# Altium integrated library TI Power Management DC-DC Controller (External Switch).IntLib: 349 symbols (part 6 of 28)
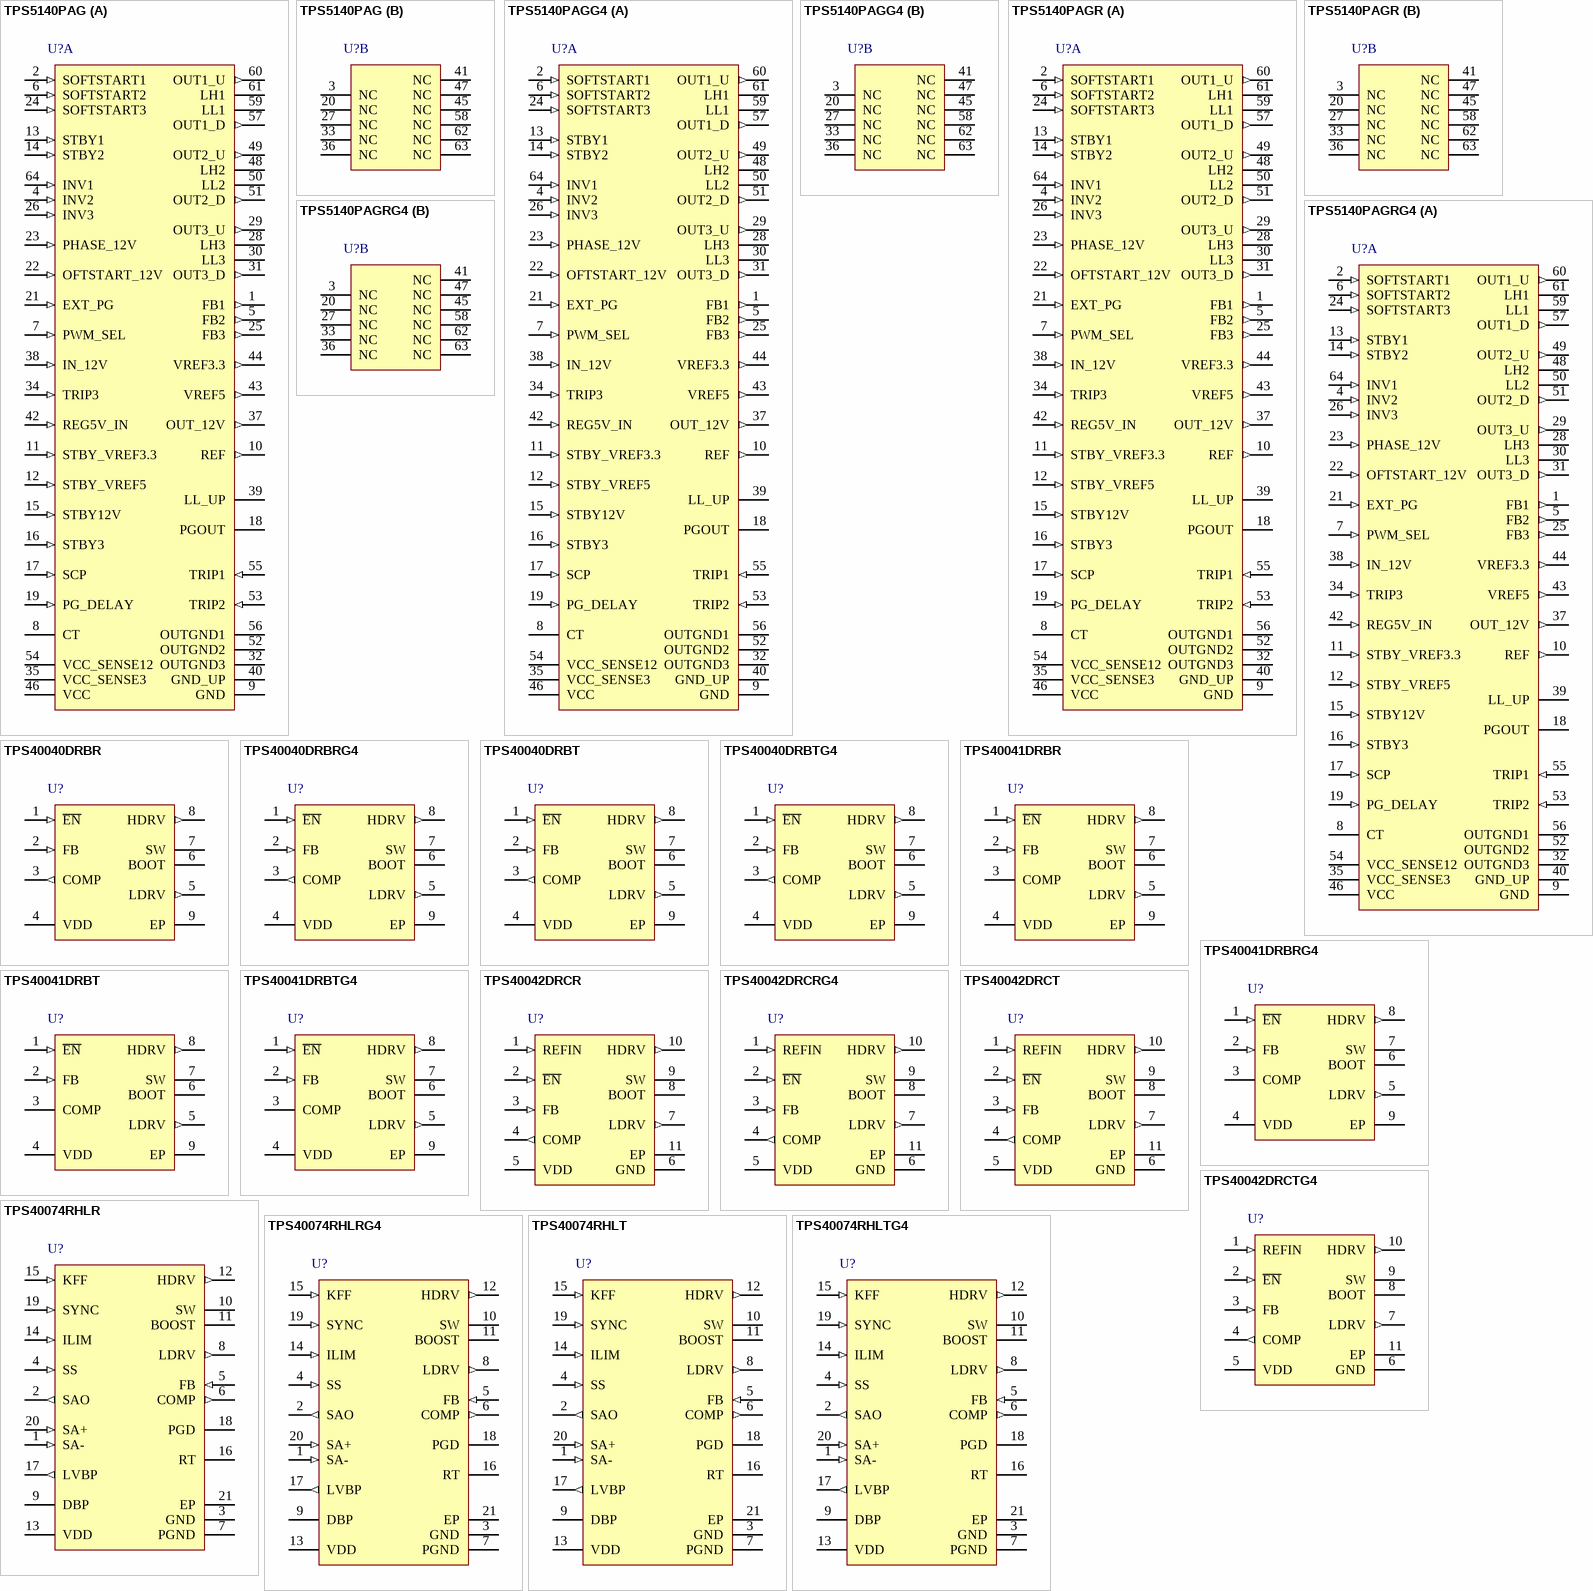
[diagram p19: symbols TPS5140PAG to TPS40074RHLTG4]

## TPS5140PAGG4
designator U?
Quad Output (3 Buck, 1 Boost) High Efficiency DC / DC Controller for Notebook PC Power, 75 % Duty Cycle, 4.5 to 28 V, -20 to 85 degC, 64-pin TQFP (PAG), Green (RoHS & no Sb/Br); Manufacturer: Texas Instruments; PartNumber: TPS5140PAGG4; Duty Cycle(Max)(%): 75; Iout(Max)(A): 20; Regulated Outputs(#): 4; SubFamily: Multiple-Output Switching Controller; Switching Frequency(Max)(kHz): 350; Synchronous Rectification: TRUE; Vin(Max)(V): 28; Vin(Min)(V): 4.5; Vout(Max)(V): 26; Vout(Min)(V): 1.2; DatasheetVersion: SLVS305A; PackageVersion: Dec-1996; PackageReference: PAG64; PackageDescription: 64-Pin Thin Quad Flat Pack 0.5 mm Pitch; Supplier 1: Digi-Key; Supplier Part Number 1: TPS5140PAGG4-ND; Supplier 2: Mouser; Supplier Part Number 2: 595-TPS5140PAGG4; Eco-Plan: Green (RoHS & no Sb/Br); Iout2(A): 20; Topology: Buck; Vout2(Max)(V): 26; Vout2(Min)(V): 1.2; Mounting Technology: Surface Mount; Code_JEDEC: MS-026; ComponentLink1Description: Datasheet; ComponentLink1URL: http://www.ti.com/general/docs/lit/getliterature.tsp?genericPartNumber=TPS5140&fileType=pdf; ComponentLink2Description: Package Specification; ComponentLink2URL: http://www.ti.com/litv/pdf/mtqf006a
footprint PAG64_N (Thin QFP, 64-Leads, Body 10x10mm, Pitch 0.5mm, IPC Medium Density)
footprint PAG64_L (Thin QFP, 64-Leads, Body 10x10mm, Pitch 0.5mm, IPC High Density)
footprint PAG64_M (Thin QFP, 64-Leads, Body 10x10mm, Pitch 0.5mm, IPC Low Density)
part A pins: 1 FB1 (out) "Feedback output of CH1 error amplifier.", 2 SOFTSTART1 (in) "External capacitor from SOFTSTART1 to GND for CH1 soft starts control.", 4 INV2 (in) "Inverting input of CH1 error amplifier, skip comparator and OVP2/UVP2, PG comparator.", 5 FB2 (out) "Feedback output of CH2 error amplifier.", 6 SOFTSTART2 (in) "External capacitor from SOFTSTART2 to GND for CH2 soft starts control.", 7 PWM_SEL (in) "PWM or auto PWM/SKIP modes select. L: PWM fixed  H: auto PWM/SKIP", 8 CT "External capacitor from Ct to GND used for adjusting the triangle oscillator.", 9 GND (power) "Control GND.", 10 REF (out) "1.185 V reference voltage output.", 11 STBY_VREF3.3 (in) "Stand by control for 3.3-V linear regulator.", 12 STBY_VREF5 (in) "Stand by control for 5-V linear regulator.", 13 STBY1 (in) "Stand by control for CH1.", 14 STBY2 (in) "Stand by control for CH2.", 15 STBY12V (in) "Stand by control for 12-V boost converter.", 16 STBY3 (in) "Stand by control for CH3.", 17 SCP (in) "Short circuit protection terminal. An external capacitor is connected between SCP and GND to set the SCP enable time up.", 18 PGOUT (oc) "Open drain output for power good signal.", 19 PG_DELAY (in) "Programmable delay for power good. Connect to the external capacitor for timer delay.", 21 EXT_PG (in) "External power good signal input.", 22 OFTSTART_12V (in) "External capacitor from SOFTSTART_12V to GND for CH4 (12-V boost converter) soft starts control.", 23 PHASE_12V (in) "Phase compensation for the12-V boost converter. Connect to an external capacitor. But normally it is not connected.", 24 SOFTSTART3 (in) "External capacitor from SOFTSTART3 to GND for CH3 soft starts control.", 25 FB3 (out) "Feedback output of CH3 error amplifier.", 26 INV3 (in) "Inverting input of CH1 error amplifier, skip comparator and OVP3/UVP3, PG comparator.", 28 LH3 (power) "Bootstrap capacitor connection for CH3 high side gate drive.", 29 OUT3_U (out) "Gate drive output for CH3 high side switching FETs.", 30 LL3 (power) "Bootstrap low for CH3 high side gate driving return and output current protection. Connect to the junction of the high side and low side FETs for floating drive configuration.", 31 OUT3_D (out) "Gate drive output for CH3 low side gate drive.", 32 OUTGND3 (power) "Ground for CH3 FETs drivers. It is connected to the one of current limiting comparator input.", 34 TRIP3 (in) "External resistor connection for CH3 output current protection control.", 35 VCC_SENSE3 (power) "Supply voltage input and input voltage terminal for CH3 output current sense.", 37 OUT_12V (out) "Output of PMOS switch for 12-V boost output. Connect to the output capacitor for 12-V boost output.", 38 IN_12V (in) "Input of PMOS switch for 12-V boost output. Connecting to cathode of the external Schottky diode.", 39 LL_UP (oc) "Open drain output of internal NMOS switch for 12-V boost converter. Connect between external inductor and the anode of the schottky diode.", 40 GND_UP (power) "Ground for 12-V boost converter.", 42 REG5V_IN (in) "External 5 V input.", 43 VREF5 (out) "5-V linear regulator output.", 44 VREF3.3 (out) "3.3-V linear regulator output.", 46 VCC (power) "Supply voltage input.", 48 LH2 (power) "Bootstrap capacitor connection for CH2 high side gate drive.", 49 OUT2_U (out) "Gate drive output for CH2 high side switching FETs.", 50 LL2 (power) "Bootstrap low for CH2 high side gate driving return and output current protection. Connect to the junction of the high side and low side FETs for floating drive configuration.", 51 OUT2_D (out) "Gate drive output for CH2 low side gate drive.", 52 OUTGND2 (power) "Ground for CH2 FETs drivers. It is connected to one of current limiting comparator input.", 53 TRIP2 (in) "External resistor connection for CH2 output current protection control.", 54 VCC_SENSE12 (power) "Supply voltage input and input voltage terminal for CH1/2 output current sense.", 55 TRIP1 (in) "External resistor connection for CH1 output current protection control.", 56 OUTGND1 (power) "Ground for CH1 FETs drivers. It is connected to one of the current limiting comparator input.", 57 OUT1_D (out) "Gate drive output for CH1 low side gate drive.", 59 LL1 (power) "Bootstrap low for CH1 high side gate driving return and output current protection. Connect to the junction of the high side and low side FETs for floating drive configuration.", 60 OUT1_U (out) "Gate drive output for CH1 high side switching FETs.", 61 LH1 (power) "Bootstrap capacitor connection for CH1 high side gate drive.", 64 INV1 (in) "Inverting input of CH1 error amplifier, skip comparator and OVP1/UVP1, PG comparator."
part B pins: 3 NC "No connect.", 20 NC "No connect.", 27 NC "No connect.", 33 NC "No connect.", 36 NC "No connect.", 41 NC "No connect.", 45 NC "No connect.", 47 NC "No connect.", 58 NC "No connect.", 62 NC "No connect.", 63 NC "No connect."

## TPS5140PAGR
designator U?
Quad Output (3 Buck, 1 Boost) High Efficiency DC / DC Controller for Notebook PC Power, 75 % Duty Cycle, 4.5 to 28 V, -20 to 85 degC, 64-pin TQFP (PAG), Green (RoHS & no Sb/Br); Manufacturer: Texas Instruments; PartNumber: TPS5140PAGR; Duty Cycle(Max)(%): 75; Iout(Max)(A): 20; Regulated Outputs(#): 4; SubFamily: Multiple-Output Switching Controller; Switching Frequency(Max)(kHz): 350; Synchronous Rectification: TRUE; Vin(Max)(V): 28; Vin(Min)(V): 4.5; Vout(Max)(V): 26; Vout(Min)(V): 1.2; DatasheetVersion: SLVS305A; PackageVersion: Dec-1996; PackageReference: PAG64; PackageDescription: 64-Pin Thin Quad Flat Pack 0.5 mm Pitch; Supplier 1: Digi-Key; Supplier Part Number 1: TPS5140PAGR-ND; Supplier 2: Mouser; Supplier Part Number 2: 595-TPS5140PAGR; Eco-Plan: Green (RoHS & no Sb/Br); Iout2(A): 20; Topology: Buck; Vout2(Max)(V): 26; Vout2(Min)(V): 1.2; Mounting Technology: Surface Mount; Code_JEDEC: MS-026; ComponentLink1Description: Datasheet; ComponentLink1URL: http://www.ti.com/general/docs/lit/getliterature.tsp?genericPartNumber=TPS5140&fileType=pdf; ComponentLink2Description: Package Specification; ComponentLink2URL: http://www.ti.com/litv/pdf/mtqf006a
footprint PAG64_N (Thin QFP, 64-Leads, Body 10x10mm, Pitch 0.5mm, IPC Medium Density)
footprint PAG64_L (Thin QFP, 64-Leads, Body 10x10mm, Pitch 0.5mm, IPC High Density)
footprint PAG64_M (Thin QFP, 64-Leads, Body 10x10mm, Pitch 0.5mm, IPC Low Density)
part A pins: 1 FB1 (out) "Feedback output of CH1 error amplifier.", 2 SOFTSTART1 (in) "External capacitor from SOFTSTART1 to GND for CH1 soft starts control.", 4 INV2 (in) "Inverting input of CH1 error amplifier, skip comparator and OVP2/UVP2, PG comparator.", 5 FB2 (out) "Feedback output of CH2 error amplifier.", 6 SOFTSTART2 (in) "External capacitor from SOFTSTART2 to GND for CH2 soft starts control.", 7 PWM_SEL (in) "PWM or auto PWM/SKIP modes select. L: PWM fixed  H: auto PWM/SKIP", 8 CT "External capacitor from Ct to GND used for adjusting the triangle oscillator.", 9 GND (power) "Control GND.", 10 REF (out) "1.185 V reference voltage output.", 11 STBY_VREF3.3 (in) "Stand by control for 3.3-V linear regulator.", 12 STBY_VREF5 (in) "Stand by control for 5-V linear regulator.", 13 STBY1 (in) "Stand by control for CH1.", 14 STBY2 (in) "Stand by control for CH2.", 15 STBY12V (in) "Stand by control for 12-V boost converter.", 16 STBY3 (in) "Stand by control for CH3.", 17 SCP (in) "Short circuit protection terminal. An external capacitor is connected between SCP and GND to set the SCP enable time up.", 18 PGOUT (oc) "Open drain output for power good signal.", 19 PG_DELAY (in) "Programmable delay for power good. Connect to the external capacitor for timer delay.", 21 EXT_PG (in) "External power good signal input.", 22 OFTSTART_12V (in) "External capacitor from SOFTSTART_12V to GND for CH4 (12-V boost converter) soft starts control.", 23 PHASE_12V (in) "Phase compensation for the12-V boost converter. Connect to an external capacitor. But normally it is not connected.", 24 SOFTSTART3 (in) "External capacitor from SOFTSTART3 to GND for CH3 soft starts control.", 25 FB3 (out) "Feedback output of CH3 error amplifier.", 26 INV3 (in) "Inverting input of CH1 error amplifier, skip comparator and OVP3/UVP3, PG comparator.", 28 LH3 (power) "Bootstrap capacitor connection for CH3 high side gate drive.", 29 OUT3_U (out) "Gate drive output for CH3 high side switching FETs.", 30 LL3 (power) "Bootstrap low for CH3 high side gate driving return and output current protection. Connect to the junction of the high side and low side FETs for floating drive configuration.", 31 OUT3_D (out) "Gate drive output for CH3 low side gate drive.", 32 OUTGND3 (power) "Ground for CH3 FETs drivers. It is connected to the one of current limiting comparator input.", 34 TRIP3 (in) "External resistor connection for CH3 output current protection control.", 35 VCC_SENSE3 (power) "Supply voltage input and input voltage terminal for CH3 output current sense.", 37 OUT_12V (out) "Output of PMOS switch for 12-V boost output. Connect to the output capacitor for 12-V boost output.", 38 IN_12V (in) "Input of PMOS switch for 12-V boost output. Connecting to cathode of the external Schottky diode.", 39 LL_UP (oc) "Open drain output of internal NMOS switch for 12-V boost converter. Connect between external inductor and the anode of the schottky diode.", 40 GND_UP (power) "Ground for 12-V boost converter.", 42 REG5V_IN (in) "External 5 V input.", 43 VREF5 (out) "5-V linear regulator output.", 44 VREF3.3 (out) "3.3-V linear regulator output.", 46 VCC (power) "Supply voltage input.", 48 LH2 (power) "Bootstrap capacitor connection for CH2 high side gate drive.", 49 OUT2_U (out) "Gate drive output for CH2 high side switching FETs.", 50 LL2 (power) "Bootstrap low for CH2 high side gate driving return and output current protection. Connect to the junction of the high side and low side FETs for floating drive configuration.", 51 OUT2_D (out) "Gate drive output for CH2 low side gate drive.", 52 OUTGND2 (power) "Ground for CH2 FETs drivers. It is connected to one of current limiting comparator input.", 53 TRIP2 (in) "External resistor connection for CH2 output current protection control.", 54 VCC_SENSE12 (power) "Supply voltage input and input voltage terminal for CH1/2 output current sense.", 55 TRIP1 (in) "External resistor connection for CH1 output current protection control.", 56 OUTGND1 (power) "Ground for CH1 FETs drivers. It is connected to one of the current limiting comparator input.", 57 OUT1_D (out) "Gate drive output for CH1 low side gate drive.", 59 LL1 (power) "Bootstrap low for CH1 high side gate driving return and output current protection. Connect to the junction of the high side and low side FETs for floating drive configuration.", 60 OUT1_U (out) "Gate drive output for CH1 high side switching FETs.", 61 LH1 (power) "Bootstrap capacitor connection for CH1 high side gate drive.", 64 INV1 (in) "Inverting input of CH1 error amplifier, skip comparator and OVP1/UVP1, PG comparator."
part B pins: 3 NC "No connect.", 20 NC "No connect.", 27 NC "No connect.", 33 NC "No connect.", 36 NC "No connect.", 41 NC "No connect.", 45 NC "No connect.", 47 NC "No connect.", 58 NC "No connect.", 62 NC "No connect.", 63 NC "No connect."

## TPS5140PAGRG4
designator U?
Quad Output (3 Buck, 1 Boost) High Efficiency DC / DC Controller for Notebook PC Power, 75 % Duty Cycle, 4.5 to 28 V, -20 to 85 degC, 64-pin TQFP (PAG), Green (RoHS & no Sb/Br); Manufacturer: Texas Instruments; PartNumber: TPS5140PAGRG4; Duty Cycle(Max)(%): 75; Iout(Max)(A): 20; Regulated Outputs(#): 4; SubFamily: Multiple-Output Switching Controller; Switching Frequency(Max)(kHz): 350; Synchronous Rectification: TRUE; Vin(Max)(V): 28; Vin(Min)(V): 4.5; Vout(Max)(V): 26; Vout(Min)(V): 1.2; DatasheetVersion: SLVS305A; PackageVersion: Dec-1996; PackageReference: PAG64; PackageDescription: 64-Pin Thin Quad Flat Pack 0.5 mm Pitch; Supplier 1: Digi-Key; Supplier Part Number 1: TPS5140PAGRG4-ND; Supplier 2: Mouser; Supplier Part Number 2: 595-TPS5140PAGRG4; Eco-Plan: Green (RoHS & no Sb/Br); Iout2(A): 20; Topology: Buck; Vout2(Max)(V): 26; Vout2(Min)(V): 1.2; Mounting Technology: Surface Mount; Code_JEDEC: MS-026; ComponentLink1Description: Datasheet; ComponentLink1URL: http://www.ti.com/general/docs/lit/getliterature.tsp?genericPartNumber=TPS5140&fileType=pdf; ComponentLink2Description: Package Specification; ComponentLink2URL: http://www.ti.com/litv/pdf/mtqf006a
footprint PAG64_N (Thin QFP, 64-Leads, Body 10x10mm, Pitch 0.5mm, IPC Medium Density)
footprint PAG64_L (Thin QFP, 64-Leads, Body 10x10mm, Pitch 0.5mm, IPC High Density)
footprint PAG64_M (Thin QFP, 64-Leads, Body 10x10mm, Pitch 0.5mm, IPC Low Density)
part A pins: 1 FB1 (out) "Feedback output of CH1 error amplifier.", 2 SOFTSTART1 (in) "External capacitor from SOFTSTART1 to GND for CH1 soft starts control.", 4 INV2 (in) "Inverting input of CH1 error amplifier, skip comparator and OVP2/UVP2, PG comparator.", 5 FB2 (out) "Feedback output of CH2 error amplifier.", 6 SOFTSTART2 (in) "External capacitor from SOFTSTART2 to GND for CH2 soft starts control.", 7 PWM_SEL (in) "PWM or auto PWM/SKIP modes select. L: PWM fixed  H: auto PWM/SKIP", 8 CT "External capacitor from Ct to GND used for adjusting the triangle oscillator.", 9 GND (power) "Control GND.", 10 REF (out) "1.185 V reference voltage output.", 11 STBY_VREF3.3 (in) "Stand by control for 3.3-V linear regulator.", 12 STBY_VREF5 (in) "Stand by control for 5-V linear regulator.", 13 STBY1 (in) "Stand by control for CH1.", 14 STBY2 (in) "Stand by control for CH2.", 15 STBY12V (in) "Stand by control for 12-V boost converter.", 16 STBY3 (in) "Stand by control for CH3.", 17 SCP (in) "Short circuit protection terminal. An external capacitor is connected between SCP and GND to set the SCP enable time up.", 18 PGOUT (oc) "Open drain output for power good signal.", 19 PG_DELAY (in) "Programmable delay for power good. Connect to the external capacitor for timer delay.", 21 EXT_PG (in) "External power good signal input.", 22 OFTSTART_12V (in) "External capacitor from SOFTSTART_12V to GND for CH4 (12-V boost converter) soft starts control.", 23 PHASE_12V (in) "Phase compensation for the12-V boost converter. Connect to an external capacitor. But normally it is not connected.", 24 SOFTSTART3 (in) "External capacitor from SOFTSTART3 to GND for CH3 soft starts control.", 25 FB3 (out) "Feedback output of CH3 error amplifier.", 26 INV3 (in) "Inverting input of CH1 error amplifier, skip comparator and OVP3/UVP3, PG comparator.", 28 LH3 (power) "Bootstrap capacitor connection for CH3 high side gate drive.", 29 OUT3_U (out) "Gate drive output for CH3 high side switching FETs.", 30 LL3 (power) "Bootstrap low for CH3 high side gate driving return and output current protection. Connect to the junction of the high side and low side FETs for floating drive configuration.", 31 OUT3_D (out) "Gate drive output for CH3 low side gate drive.", 32 OUTGND3 (power) "Ground for CH3 FETs drivers. It is connected to the one of current limiting comparator input.", 34 TRIP3 (in) "External resistor connection for CH3 output current protection control.", 35 VCC_SENSE3 (power) "Supply voltage input and input voltage terminal for CH3 output current sense.", 37 OUT_12V (out) "Output of PMOS switch for 12-V boost output. Connect to the output capacitor for 12-V boost output.", 38 IN_12V (in) "Input of PMOS switch for 12-V boost output. Connecting to cathode of the external Schottky diode.", 39 LL_UP (oc) "Open drain output of internal NMOS switch for 12-V boost converter. Connect between external inductor and the anode of the schottky diode.", 40 GND_UP (power) "Ground for 12-V boost converter.", 42 REG5V_IN (in) "External 5 V input.", 43 VREF5 (out) "5-V linear regulator output.", 44 VREF3.3 (out) "3.3-V linear regulator output.", 46 VCC (power) "Supply voltage input.", 48 LH2 (power) "Bootstrap capacitor connection for CH2 high side gate drive.", 49 OUT2_U (out) "Gate drive output for CH2 high side switching FETs.", 50 LL2 (power) "Bootstrap low for CH2 high side gate driving return and output current protection. Connect to the junction of the high side and low side FETs for floating drive configuration.", 51 OUT2_D (out) "Gate drive output for CH2 low side gate drive.", 52 OUTGND2 (power) "Ground for CH2 FETs drivers. It is connected to one of current limiting comparator input.", 53 TRIP2 (in) "External resistor connection for CH2 output current protection control.", 54 VCC_SENSE12 (power) "Supply voltage input and input voltage terminal for CH1/2 output current sense.", 55 TRIP1 (in) "External resistor connection for CH1 output current protection control.", 56 OUTGND1 (power) "Ground for CH1 FETs drivers. It is connected to one of the current limiting comparator input.", 57 OUT1_D (out) "Gate drive output for CH1 low side gate drive.", 59 LL1 (power) "Bootstrap low for CH1 high side gate driving return and output current protection. Connect to the junction of the high side and low side FETs for floating drive configuration.", 60 OUT1_U (out) "Gate drive output for CH1 high side switching FETs.", 61 LH1 (power) "Bootstrap capacitor connection for CH1 high side gate drive.", 64 INV1 (in) "Inverting input of CH1 error amplifier, skip comparator and OVP1/UVP1, PG comparator."
part B pins: 3 NC "No connect.", 20 NC "No connect.", 27 NC "No connect.", 33 NC "No connect.", 36 NC "No connect.", 41 NC "No connect.", 45 NC "No connect.", 47 NC "No connect.", 58 NC "No connect.", 62 NC "No connect.", 63 NC "No connect."

## TPS40040DRBR
designator U?
Low Pin Count, Low Vin Synchronous Buck DC / DC Controller, 90 % Duty Cycle, 2.25 to 5.5 V, -40 to 85 degC, 8-pin SON (DRB), Green (RoHS & no Sb/Br); Manufacturer: Texas Instruments; PartNumber: TPS40040DRBR; Duty Cycle(Max)(%): 90; Iout(Max)(A): 15; Regulated Outputs(#): 1; SubFamily: Step-Down Controller; Switching Frequency(Max)(kHz): 300; Synchronous Rectification: TRUE; Vin(Max)(V): 5.5; Vin(Min)(V): 2.25; Vout(Max)(V): 4.95; Vout(Min)(V): 0.6; DatasheetVersion: SLUS700D; PackageVersion: revK, Jun-2012; PackageReference: DRB8-2400X1650TP; PackageDescription: 8-Pin Plastic Small Outline No-Lead, 3 x 3 x 1 mm Body, 0.65 mm Pitch, Exposed Pad; Supplier 1: Digi-Key; Supplier Part Number 1: TPS40040DRBR-ND; Supplier 2: Newark; Supplier Part Number 2: 84K3828; Supplier 3: Mouser; Supplier Part Number 3: 595-TPS40040DRBR; Eco-Plan: Green (RoHS & no Sb/Br); Topology: Buck; Mounting Technology: Surface Mount; ComponentLink1Description: Datasheet; ComponentLink1URL: http://www.ti.com/general/docs/lit/getliterature.tsp?genericPartNumber=TPS40040&fileType=pdf; ComponentLink2Description: Package Specification; ComponentLink2URL: http://www.ti.com/litv/pdf/mpds118h
footprint DRB8-2400X1650TP (SON, 8-Leads, Body 3x3mm, Pitch 0.65mm, Thermal Pad 2.4x1.65mm, TI Recommended)
pins: 1 ~{EN} (in) "Active low enable input allows ON/OFF operation of the controller. If power is applied to the TPS40040/1 while the E\N\ pin is allowed to float high, the TPS40040/1 remains disabled (both external switches are held OFF). (See Datasheet)", 2 FB (in) "Inverting input of the error amplifier. In closed loop operation, the voltage at this pin is at the internal reference level of 600 mV. A series resistor divider from the converter output to ground, with the center (See Datasheet)", 3 COMP (out) "Output of the error amplifier and connection node for loop feedback components. The voltage at this pin determines the duty cycle for the PWM. Optionally, a resistor from this pin to ground is used to determine the voltage (See Datasheet)", 4 VDD (power) "Power input to the device. This pin should be locally bypassed to GND with a low ESR ceramic capacitor of 1 uF or greater.", 5 LDRV (out) "Gate drive output for the low-side synchronous rectifier (SR) N-channel MOSFET.", 6 BOOT (power) "Input (bootstrapped) supply to the high-side gate driver for PWM enabling the gate of the high side FET to be driven above the input supply rail. Connect a ceramic capacitor from this pin to SW. This capacitor is charged (See Datasheet)", 7 SW (power) "Connection to the switched node of the converter and the power return for the upper gate driver. There should be a high current return path from the source of the upper MOSFET to this pin. It is also used by the adaptive (See Datasheet)", 8 HDRV (out) "This is the gate drive output for the high side N-channel MOSFET switch for PWM. It is referenced to SW and is bootstrapped for enhancement of the high-side switch.", 9 EP (power) "Ground connection to the device. This is also the thermal pad used to conduct heat from the device. This connection serves a twofold purpose. The first is to provide an electrical ground connection for the device. The second (See Datasheet)"

## TPS40040DRBRG4
designator U?
Low Pin Count, Low Vin Synchronous Buck DC / DC Controller, 90 % Duty Cycle, 2.25 to 5.5 V, -40 to 85 degC, 8-pin SON (DRB), Green (RoHS & no Sb/Br); Manufacturer: Texas Instruments; PartNumber: TPS40040DRBRG4; Duty Cycle(Max)(%): 90; Iout(Max)(A): 15; Regulated Outputs(#): 1; SubFamily: Step-Down Controller; Switching Frequency(Max)(kHz): 300; Synchronous Rectification: TRUE; Vin(Max)(V): 5.5; Vin(Min)(V): 2.25; Vout(Max)(V): 4.95; Vout(Min)(V): 0.6; DatasheetVersion: SLUS700D; PackageVersion: revK, Jun-2012; PackageReference: DRB8-2400X1650TP; PackageDescription: 8-Pin Plastic Small Outline No-Lead, 3 x 3 x 1 mm Body, 0.65 mm Pitch, Exposed Pad; Supplier 1: Digi-Key; Supplier Part Number 1: TPS40040DRBRG4-ND; Supplier 2: Newark; Supplier Part Number 2: 85K1688; Supplier 3: Mouser; Supplier Part Number 3: 595-TPS40040DRBRG4; Eco-Plan: Green (RoHS & no Sb/Br); Topology: Buck; Mounting Technology: Surface Mount; ComponentLink1Description: Datasheet; ComponentLink1URL: http://www.ti.com/general/docs/lit/getliterature.tsp?genericPartNumber=TPS40040&fileType=pdf; ComponentLink2Description: Package Specification; ComponentLink2URL: http://www.ti.com/litv/pdf/mpds118h
footprint DRB8-2400X1650TP (SON, 8-Leads, Body 3x3mm, Pitch 0.65mm, Thermal Pad 2.4x1.65mm, TI Recommended)
pins: 1 ~{EN} (in) "Active low enable input allows ON/OFF operation of the controller. If power is applied to the TPS40040/1 while the E\N\ pin is allowed to float high, the TPS40040/1 remains disabled (both external switches are held OFF). (See Datasheet)", 2 FB (in) "Inverting input of the error amplifier. In closed loop operation, the voltage at this pin is at the internal reference level of 600 mV. A series resistor divider from the converter output to ground, with the center (See Datasheet)", 3 COMP (out) "Output of the error amplifier and connection node for loop feedback components. The voltage at this pin determines the duty cycle for the PWM. Optionally, a resistor from this pin to ground is used to determine the voltage (See Datasheet)", 4 VDD (power) "Power input to the device. This pin should be locally bypassed to GND with a low ESR ceramic capacitor of 1 uF or greater.", 5 LDRV (out) "Gate drive output for the low-side synchronous rectifier (SR) N-channel MOSFET.", 6 BOOT (power) "Input (bootstrapped) supply to the high-side gate driver for PWM enabling the gate of the high side FET to be driven above the input supply rail. Connect a ceramic capacitor from this pin to SW. This capacitor is charged (See Datasheet)", 7 SW (power) "Connection to the switched node of the converter and the power return for the upper gate driver. There should be a high current return path from the source of the upper MOSFET to this pin. It is also used by the adaptive (See Datasheet)", 8 HDRV (out) "This is the gate drive output for the high side N-channel MOSFET switch for PWM. It is referenced to SW and is bootstrapped for enhancement of the high-side switch.", 9 EP (power) "Ground connection to the device. This is also the thermal pad used to conduct heat from the device. This connection serves a twofold purpose. The first is to provide an electrical ground connection for the device. The second (See Datasheet)"

## TPS40040DRBT
designator U?
Low Pin Count, Low Vin Synchronous Buck DC / DC Controller, 90 % Duty Cycle, 2.25 to 5.5 V, -40 to 85 degC, 8-pin SON (DRB), Green (RoHS & no Sb/Br); Manufacturer: Texas Instruments; PartNumber: TPS40040DRBT; Duty Cycle(Max)(%): 90; Iout(Max)(A): 15; Regulated Outputs(#): 1; SubFamily: Step-Down Controller; Switching Frequency(Max)(kHz): 300; Synchronous Rectification: TRUE; Vin(Max)(V): 5.5; Vin(Min)(V): 2.25; Vout(Max)(V): 4.95; Vout(Min)(V): 0.6; DatasheetVersion: SLUS700D; PackageVersion: revK, Jun-2012; PackageReference: DRB8-2400X1650TP; PackageDescription: 8-Pin Plastic Small Outline No-Lead, 3 x 3 x 1 mm Body, 0.65 mm Pitch, Exposed Pad; Supplier 1: Digi-Key; Supplier Part Number 1: 296-19638-2-ND; Supplier 2: Digi-Key; Supplier Part Number 2: 296-19638-1-ND; Supplier 3: Digi-Key; Supplier Part Number 3: 296-19638-6-ND; Supplier 4: Farnell; Supplier Part Number 4: 1471221; Supplier 5: Newark; Supplier Part Number 5: 84K3829; Supplier 6: Mouser; Supplier Part Number 6: 595-TPS40040DRBT; Eco-Plan: Green (RoHS & no Sb/Br); Topology: Buck; Mounting Technology: Surface Mount; ComponentLink1Description: Datasheet; ComponentLink1URL: http://www.ti.com/general/docs/lit/getliterature.tsp?genericPartNumber=TPS40040&fileType=pdf; ComponentLink2Description: Package Specification; ComponentLink2URL: http://www.ti.com/litv/pdf/mpds118h
footprint DRB8-2400X1650TP (SON, 8-Leads, Body 3x3mm, Pitch 0.65mm, Thermal Pad 2.4x1.65mm, TI Recommended)
pins: 1 ~{EN} (in) "Active low enable input allows ON/OFF operation of the controller. If power is applied to the TPS40040/1 while the E\N\ pin is allowed to float high, the TPS40040/1 remains disabled (both external switches are held OFF). (See Datasheet)", 2 FB (in) "Inverting input of the error amplifier. In closed loop operation, the voltage at this pin is at the internal reference level of 600 mV. A series resistor divider from the converter output to ground, with the center (See Datasheet)", 3 COMP (out) "Output of the error amplifier and connection node for loop feedback components. The voltage at this pin determines the duty cycle for the PWM. Optionally, a resistor from this pin to ground is used to determine the voltage (See Datasheet)", 4 VDD (power) "Power input to the device. This pin should be locally bypassed to GND with a low ESR ceramic capacitor of 1 uF or greater.", 5 LDRV (out) "Gate drive output for the low-side synchronous rectifier (SR) N-channel MOSFET.", 6 BOOT (power) "Input (bootstrapped) supply to the high-side gate driver for PWM enabling the gate of the high side FET to be driven above the input supply rail. Connect a ceramic capacitor from this pin to SW. This capacitor is charged (See Datasheet)", 7 SW (power) "Connection to the switched node of the converter and the power return for the upper gate driver. There should be a high current return path from the source of the upper MOSFET to this pin. It is also used by the adaptive (See Datasheet)", 8 HDRV (out) "This is the gate drive output for the high side N-channel MOSFET switch for PWM. It is referenced to SW and is bootstrapped for enhancement of the high-side switch.", 9 EP (power) "Ground connection to the device. This is also the thermal pad used to conduct heat from the device. This connection serves a twofold purpose. The first is to provide an electrical ground connection for the device. The second (See Datasheet)"

## TPS40040DRBTG4
designator U?
Low Pin Count, Low Vin Synchronous Buck DC / DC Controller, 90 % Duty Cycle, 2.25 to 5.5 V, -40 to 85 degC, 8-pin SON (DRB), Green (RoHS & no Sb/Br); Manufacturer: Texas Instruments; PartNumber: TPS40040DRBTG4; Duty Cycle(Max)(%): 90; Iout(Max)(A): 15; Regulated Outputs(#): 1; SubFamily: Step-Down Controller; Switching Frequency(Max)(kHz): 300; Synchronous Rectification: TRUE; Vin(Max)(V): 5.5; Vin(Min)(V): 2.25; Vout(Max)(V): 4.95; Vout(Min)(V): 0.6; DatasheetVersion: SLUS700D; PackageVersion: revK, Jun-2012; PackageReference: DRB8-2400X1650TP; PackageDescription: 8-Pin Plastic Small Outline No-Lead, 3 x 3 x 1 mm Body, 0.65 mm Pitch, Exposed Pad; Supplier 1: Digi-Key; Supplier Part Number 1: TPS40040DRBTG4-ND; Supplier 2: Newark; Supplier Part Number 2: 85K1689; Supplier 3: Mouser; Supplier Part Number 3: 595-TPS40040DRBTG4; Eco-Plan: Green (RoHS & no Sb/Br); Topology: Buck; Mounting Technology: Surface Mount; ComponentLink1Description: Datasheet; ComponentLink1URL: http://www.ti.com/general/docs/lit/getliterature.tsp?genericPartNumber=TPS40040&fileType=pdf; ComponentLink2Description: Package Specification; ComponentLink2URL: http://www.ti.com/litv/pdf/mpds118h
footprint DRB8-2400X1650TP (SON, 8-Leads, Body 3x3mm, Pitch 0.65mm, Thermal Pad 2.4x1.65mm, TI Recommended)
pins: 1 ~{EN} (in) "Active low enable input allows ON/OFF operation of the controller. If power is applied to the TPS40040/1 while the E\N\ pin is allowed to float high, the TPS40040/1 remains disabled (both external switches are held OFF). (See Datasheet)", 2 FB (in) "Inverting input of the error amplifier. In closed loop operation, the voltage at this pin is at the internal reference level of 600 mV. A series resistor divider from the converter output to ground, with the center (See Datasheet)", 3 COMP (out) "Output of the error amplifier and connection node for loop feedback components. The voltage at this pin determines the duty cycle for the PWM. Optionally, a resistor from this pin to ground is used to determine the voltage (See Datasheet)", 4 VDD (power) "Power input to the device. This pin should be locally bypassed to GND with a low ESR ceramic capacitor of 1 uF or greater.", 5 LDRV (out) "Gate drive output for the low-side synchronous rectifier (SR) N-channel MOSFET.", 6 BOOT (power) "Input (bootstrapped) supply to the high-side gate driver for PWM enabling the gate of the high side FET to be driven above the input supply rail. Connect a ceramic capacitor from this pin to SW. This capacitor is charged (See Datasheet)", 7 SW (power) "Connection to the switched node of the converter and the power return for the upper gate driver. There should be a high current return path from the source of the upper MOSFET to this pin. It is also used by the adaptive (See Datasheet)", 8 HDRV (out) "This is the gate drive output for the high side N-channel MOSFET switch for PWM. It is referenced to SW and is bootstrapped for enhancement of the high-side switch.", 9 EP (power) "Ground connection to the device. This is also the thermal pad used to conduct heat from the device. This connection serves a twofold purpose. The first is to provide an electrical ground connection for the device. The second (See Datasheet)"

## TPS40041DRBR
designator U?
Low Pin Count, Low Vin Synchronous Buck DC / DC Controller, 88 % Duty Cycle, 2.25 to 5.5 V, -40 to 85 degC, 8-pin SON (DRB), Green (RoHS & no Sb/Br); Manufacturer: Texas Instruments; PartNumber: TPS40041DRBR; Duty Cycle(Max)(%): 88; Iout(Max)(A): 15; Regulated Outputs(#): 1; SubFamily: Step-Down Controller; Switching Frequency(Max)(kHz): 600; Synchronous Rectification: TRUE; Vin(Max)(V): 5.5; Vin(Min)(V): 2.25; Vout(Max)(V): 4.84; Vout(Min)(V): 0.6; DatasheetVersion: SLUS700D; PackageVersion: revK, Jun-2012; PackageReference: DRB8-2400X1650TP; PackageDescription: 8-Pin Plastic Small Outline No-Lead, 3 x 3 x 1 mm Body, 0.65 mm Pitch, Exposed Pad; Supplier 1: Digi-Key; Supplier Part Number 1: 296-19639-2-ND; Supplier 2: Digi-Key; Supplier Part Number 2: 296-19639-1-ND; Supplier 3: Digi-Key; Supplier Part Number 3: 296-19639-6-ND; Supplier 4: Newark; Supplier Part Number 4: 84K3830; Supplier 5: Mouser; Supplier Part Number 5: 595-TPS40041DRBR; Eco-Plan: Green (RoHS & no Sb/Br); Topology: Buck; Mounting Technology: Surface Mount; ComponentLink1Description: Datasheet; ComponentLink1URL: http://www.ti.com/general/docs/lit/getliterature.tsp?genericPartNumber=TPS40041&fileType=pdf; ComponentLink2Description: Package Specification; ComponentLink2URL: http://www.ti.com/litv/pdf/mpds118h
footprint DRB8-2400X1650TP (SON, 8-Leads, Body 3x3mm, Pitch 0.65mm, Thermal Pad 2.4x1.65mm, TI Recommended)
pins: 1 ~{EN} (in) "Active low enable input allows ON/OFF operation of the controller. If power is applied to the TPS40040/1 while the E\N\ pin is allowed to float high, the TPS40040/1 remains disabled (both external switches are held OFF). (See Datasheet)", 2 FB (in) "Inverting input of the error amplifier. In closed loop operation, the voltage at this pin is at the internal reference level of 600 mV. A series resistor divider from the converter output to ground, with the center (See Datasheet)", 3 COMP "Output of the error amplifier and connection node for loop feedback components. The voltage at this pin determines the duty cycle for the PWM. Optionally, a resistor from this pin to ground is used to determine the voltage (See Datasheet)", 4 VDD (power) "Power input to the device. This pin should be locally bypassed to GND with a low ESR ceramic capacitor of 1 mF or greater.", 5 LDRV (out) "Gate drive output for the low-side synchronous rectifier (SR) N-channel MOSFET.", 6 BOOT (power) "Input (bootstrapped) supply to the high-side gate driver for PWM enabling the gate of the high side FET to be driven above the input supply rail. Connect a ceramic capacitor from this pin to SW. This capacitor is charged (See Datasheet)", 7 SW (power) "Connection to the switched node of the converter and the power return for the upper gate driver. There should be a high current return path from the source of the upper MOSFET to this pin. It is also used by the adaptive (See Datasheet)", 8 HDRV (out) "This is the gate drive output for the high side N-channel MOSFET switch for PWM. It is referenced to SW and is bootstrapped for enhancement of the high-side switch.", 9 EP (power) "Ground connection to the device. This is also the thermal pad used to conduct heat from the device. This connection serves a twofold purpose. The first is to provide an electrical ground GND Thermal Pad connection for the (See Datasheet)"

## TPS40041DRBRG4
designator U?
Low Pin Count, Low Vin Synchronous Buck DC / DC Controller, 88 % Duty Cycle, 2.25 to 5.5 V, -40 to 85 degC, 8-pin SON (DRB), Green (RoHS & no Sb/Br); Manufacturer: Texas Instruments; PartNumber: TPS40041DRBRG4; Duty Cycle(Max)(%): 88; Iout(Max)(A): 15; Regulated Outputs(#): 1; SubFamily: Step-Down Controller; Switching Frequency(Max)(kHz): 600; Synchronous Rectification: TRUE; Vin(Max)(V): 5.5; Vin(Min)(V): 2.25; Vout(Max)(V): 4.84; Vout(Min)(V): 0.6; DatasheetVersion: SLUS700D; PackageVersion: revK, Jun-2012; PackageReference: DRB8-2400X1650TP; PackageDescription: 8-Pin Plastic Small Outline No-Lead, 3 x 3 x 1 mm Body, 0.65 mm Pitch, Exposed Pad; Supplier 1: Digi-Key; Supplier Part Number 1: TPS40041DRBRG4-ND; Supplier 2: Newark; Supplier Part Number 2: 85K1690; Supplier 3: Mouser; Supplier Part Number 3: 595-TPS40041DRBRG4; Eco-Plan: Green (RoHS & no Sb/Br); Topology: Buck; Mounting Technology: Surface Mount; ComponentLink1Description: Datasheet; ComponentLink1URL: http://www.ti.com/general/docs/lit/getliterature.tsp?genericPartNumber=TPS40041&fileType=pdf; ComponentLink2Description: Package Specification; ComponentLink2URL: http://www.ti.com/litv/pdf/mpds118h
footprint DRB8-2400X1650TP (SON, 8-Leads, Body 3x3mm, Pitch 0.65mm, Thermal Pad 2.4x1.65mm, TI Recommended)
pins: 1 ~{EN} (in) "Active low enable input allows ON/OFF operation of the controller. If power is applied to the TPS40040/1 while the E\N\ pin is allowed to float high, the TPS40040/1 remains disabled (both external switches are held OFF). (See Datasheet)", 2 FB (in) "Inverting input of the error amplifier. In closed loop operation, the voltage at this pin is at the internal reference level of 600 mV. A series resistor divider from the converter output to ground, with the center (See Datasheet)", 3 COMP "Output of the error amplifier and connection node for loop feedback components. The voltage at this pin determines the duty cycle for the PWM. Optionally, a resistor from this pin to ground is used to determine the voltage (See Datasheet)", 4 VDD (power) "Power input to the device. This pin should be locally bypassed to GND with a low ESR ceramic capacitor of 1 mF or greater.", 5 LDRV (out) "Gate drive output for the low-side synchronous rectifier (SR) N-channel MOSFET.", 6 BOOT (power) "Input (bootstrapped) supply to the high-side gate driver for PWM enabling the gate of the high side FET to be driven above the input supply rail. Connect a ceramic capacitor from this pin to SW. This capacitor is charged (See Datasheet)", 7 SW (power) "Connection to the switched node of the converter and the power return for the upper gate driver. There should be a high current return path from the source of the upper MOSFET to this pin. It is also used by the adaptive (See Datasheet)", 8 HDRV (out) "This is the gate drive output for the high side N-channel MOSFET switch for PWM. It is referenced to SW and is bootstrapped for enhancement of the high-side switch.", 9 EP (power) "Ground connection to the device. This is also the thermal pad used to conduct heat from the device. This connection serves a twofold purpose. The first is to provide an electrical ground GND Thermal Pad connection for the (See Datasheet)"

## TPS40041DRBT
designator U?
Low Pin Count, Low Vin Synchronous Buck DC / DC Controller, 88 % Duty Cycle, 2.25 to 5.5 V, -40 to 85 degC, 8-pin SON (DRB), Green (RoHS & no Sb/Br); Manufacturer: Texas Instruments; PartNumber: TPS40041DRBT; Duty Cycle(Max)(%): 88; Iout(Max)(A): 15; Regulated Outputs(#): 1; SubFamily: Step-Down Controller; Switching Frequency(Max)(kHz): 600; Synchronous Rectification: TRUE; Vin(Max)(V): 5.5; Vin(Min)(V): 2.25; Vout(Max)(V): 4.84; Vout(Min)(V): 0.6; DatasheetVersion: SLUS700D; PackageVersion: revK, Jun-2012; PackageReference: DRB8-2400X1650TP; PackageDescription: 8-Pin Plastic Small Outline No-Lead, 3 x 3 x 1 mm Body, 0.65 mm Pitch, Exposed Pad; Supplier 1: Digi-Key; Supplier Part Number 1: 296-26960-2-ND; Supplier 2: Digi-Key; Supplier Part Number 2: 296-26960-1-ND; Supplier 3: Digi-Key; Supplier Part Number 3: 296-26960-6-ND; Supplier 4: Newark; Supplier Part Number 4: 84K3831; Supplier 5: Mouser; Supplier Part Number 5: 595-TPS40041DRBT; Eco-Plan: Green (RoHS & no Sb/Br); Topology: Buck; Mounting Technology: Surface Mount; ComponentLink1Description: Datasheet; ComponentLink1URL: http://www.ti.com/general/docs/lit/getliterature.tsp?genericPartNumber=TPS40041&fileType=pdf; ComponentLink2Description: Package Specification; ComponentLink2URL: http://www.ti.com/litv/pdf/mpds118h
footprint DRB8-2400X1650TP (SON, 8-Leads, Body 3x3mm, Pitch 0.65mm, Thermal Pad 2.4x1.65mm, TI Recommended)
pins: 1 ~{EN} (in) "Active low enable input allows ON/OFF operation of the controller. If power is applied to the TPS40040/1 while the E\N\ pin is allowed to float high, the TPS40040/1 remains disabled (both external switches are held OFF). (See Datasheet)", 2 FB (in) "Inverting input of the error amplifier. In closed loop operation, the voltage at this pin is at the internal reference level of 600 mV. A series resistor divider from the converter output to ground, with the center (See Datasheet)", 3 COMP "Output of the error amplifier and connection node for loop feedback components. The voltage at this pin determines the duty cycle for the PWM. Optionally, a resistor from this pin to ground is used to determine the voltage (See Datasheet)", 4 VDD (power) "Power input to the device. This pin should be locally bypassed to GND with a low ESR ceramic capacitor of 1 mF or greater.", 5 LDRV (out) "Gate drive output for the low-side synchronous rectifier (SR) N-channel MOSFET.", 6 BOOT (power) "Input (bootstrapped) supply to the high-side gate driver for PWM enabling the gate of the high side FET to be driven above the input supply rail. Connect a ceramic capacitor from this pin to SW. This capacitor is charged (See Datasheet)", 7 SW (power) "Connection to the switched node of the converter and the power return for the upper gate driver. There should be a high current return path from the source of the upper MOSFET to this pin. It is also used by the adaptive (See Datasheet)", 8 HDRV (out) "This is the gate drive output for the high side N-channel MOSFET switch for PWM. It is referenced to SW and is bootstrapped for enhancement of the high-side switch.", 9 EP (power) "Ground connection to the device. This is also the thermal pad used to conduct heat from the device. This connection serves a twofold purpose. The first is to provide an electrical ground GND Thermal Pad connection for the (See Datasheet)"

## TPS40041DRBTG4
designator U?
Low Pin Count, Low Vin Synchronous Buck DC / DC Controller, 88 % Duty Cycle, 2.25 to 5.5 V, -40 to 85 degC, 8-pin SON (DRB), Green (RoHS & no Sb/Br); Manufacturer: Texas Instruments; PartNumber: TPS40041DRBTG4; Duty Cycle(Max)(%): 88; Iout(Max)(A): 15; Regulated Outputs(#): 1; SubFamily: Step-Down Controller; Switching Frequency(Max)(kHz): 600; Synchronous Rectification: TRUE; Vin(Max)(V): 5.5; Vin(Min)(V): 2.25; Vout(Max)(V): 4.84; Vout(Min)(V): 0.6; DatasheetVersion: SLUS700D; PackageVersion: revK, Jun-2012; PackageReference: DRB8-2400X1650TP; PackageDescription: 8-Pin Plastic Small Outline No-Lead, 3 x 3 x 1 mm Body, 0.65 mm Pitch, Exposed Pad; Supplier 1: Digi-Key; Supplier Part Number 1: TPS40041DRBTG4-ND; Supplier 2: Newark; Supplier Part Number 2: 85K1691; Supplier 3: Mouser; Supplier Part Number 3: 595-TPS40041DRBTG4; Eco-Plan: Green (RoHS & no Sb/Br); Topology: Buck; Mounting Technology: Surface Mount; ComponentLink1Description: Datasheet; ComponentLink1URL: http://www.ti.com/general/docs/lit/getliterature.tsp?genericPartNumber=TPS40041&fileType=pdf; ComponentLink2Description: Package Specification; ComponentLink2URL: http://www.ti.com/litv/pdf/mpds118h
footprint DRB8-2400X1650TP (SON, 8-Leads, Body 3x3mm, Pitch 0.65mm, Thermal Pad 2.4x1.65mm, TI Recommended)
pins: 1 ~{EN} (in) "Active low enable input allows ON/OFF operation of the controller. If power is applied to the TPS40040/1 while the E\N\ pin is allowed to float high, the TPS40040/1 remains disabled (both external switches are held OFF). (See Datasheet)", 2 FB (in) "Inverting input of the error amplifier. In closed loop operation, the voltage at this pin is at the internal reference level of 600 mV. A series resistor divider from the converter output to ground, with the center (See Datasheet)", 3 COMP "Output of the error amplifier and connection node for loop feedback components. The voltage at this pin determines the duty cycle for the PWM. Optionally, a resistor from this pin to ground is used to determine the voltage (See Datasheet)", 4 VDD (power) "Power input to the device. This pin should be locally bypassed to GND with a low ESR ceramic capacitor of 1 mF or greater.", 5 LDRV (out) "Gate drive output for the low-side synchronous rectifier (SR) N-channel MOSFET.", 6 BOOT (power) "Input (bootstrapped) supply to the high-side gate driver for PWM enabling the gate of the high side FET to be driven above the input supply rail. Connect a ceramic capacitor from this pin to SW. This capacitor is charged (See Datasheet)", 7 SW (power) "Connection to the switched node of the converter and the power return for the upper gate driver. There should be a high current return path from the source of the upper MOSFET to this pin. It is also used by the adaptive (See Datasheet)", 8 HDRV (out) "This is the gate drive output for the high side N-channel MOSFET switch for PWM. It is referenced to SW and is bootstrapped for enhancement of the high-side switch.", 9 EP (power) "Ground connection to the device. This is also the thermal pad used to conduct heat from the device. This connection serves a twofold purpose. The first is to provide an electrical ground GND Thermal Pad connection for the (See Datasheet)"

## TPS40042DRCR
designator U?
Low Pin Count, Low Vin Synchronous Buck DCDC Controller with Tracking, 90 % Duty Cycle, 3 to 5.5 V, -40 to 85 degC, 10-pin SON (DRC), Green (RoHS & no Sb/Br); Manufacturer: Texas Instruments; PartNumber: TPS40042DRCR; Duty Cycle(Max)(%): 90; Iout(Max)(A): 15; Regulated Outputs(#): 1; SubFamily: Step-Down Controller; Switching Frequency(Max)(kHz): 600; Synchronous Rectification: TRUE; Vin(Max)(V): 5.5; Vin(Min)(V): 3; Vout(Max)(V): 4.95; Vout(Min)(V): 0.6; DatasheetVersion: SLUS777; PackageVersion: revL, Sep-2011; PackageReference: DRC10-2400X1650TP; PackageDescription: 10-Pin Plastic Small Outline No-Lead, 3 x 3 x 1 mm Body, 0.5 mm Pitch, Exposed Pad; Supplier 1: Digi-Key; Supplier Part Number 1: TPS40042DRCR-ND; Supplier 2: Newark; Supplier Part Number 2: 73M7841; Supplier 3: Mouser; Supplier Part Number 3: 595-TPS40042DRCR; Eco-Plan: Green (RoHS & no Sb/Br); Topology: Buck; Mounting Technology: Surface Mount; ComponentLink1Description: Datasheet; ComponentLink1URL: http://www.ti.com/general/docs/lit/getliterature.tsp?genericPartNumber=TPS40042&fileType=pdf; ComponentLink2Description: Package Specification; ComponentLink2URL: http://www.ti.com/litv/pdf/mpds117k
footprint DRC10-2400X1650TP (SON, 10-Leads, Body 3x3mm, Pitch 0.5mm, Thermal Pad 2.4x1.65mm, TI Recommended)
pins: 1 REFIN (in) "Non-inverting imput to the error amplifier. A precision voltage must be applied to this pin before the TPS40042 is enabled. Since this input is connected directly to the non-inverting pin of the error amplifier, the quality (See Datasheet)", 2 ~{EN} (in) "Active low enable input allows ON/OFF operation of the controller. If power is applied to the TPS40042 while the EN pin is allowed to float high, the TPS40042 remains disabled (both external switches are held OFF). Only when (See Datasheet)", 3 FB (in) "Inverting input of the error amplifier. In closed loop operation, the voltage at this pin is at the same potential as the REFIN pin. A series resistor divider from the converter output to ground, with the center connection (See Datasheet)", 4 COMP (out) "Output of the error amplifier and connection node for loop feedback components. The voltage at this pin determines the duty cycle for the PWM. Optionally, a resistor from this pin to ground is used to determine the voltage (See Datasheet)", 5 VDD (power) "Power input to the device. This pin should be locally bypassed to GND with a low ESR ceramic capacitor of 1 µF or greater.", 6 GND (power) "Electrical ground connection for the device.", 7 LDRV (out) "Gate drive output for the low-side synchronous rectifier (SR) N-channel MOSFET.", 8 BOOT (power) "Input (bootstrapped) supply to the high-side gate driver for PWM enabling the gate of the high side FET to be driven above the input supply rail. Connect a ceramic capacitor from this pin to SW. This capacitor is charged (See Datasheet)", 9 SW (power) "Connection to the switched node of the converter and the power return for the upper gate driver. There should be a high current return path from the source of the upper MOSFET to this pin. It is also used by the adaptive (See Datasheet)", 10 HDRV (out) "This is the gate drive output for the high side N-channel MOSFET switch for PWM. It is referenced to SW and is bootstrapped for enhancement of the high-side switch.", 11 EP (power) "Thermal pad used to conduct heat from the device. This pad should be tied externally to a ground plane. See Application Section for PC board layout information."